# Altium schematic symbol library SCH - MCU - INFINEON - INFINEON S6E2G38H0XXV2 LQFP-144.SchLib: 1 symbol
Pins are listed as number, name and electrical type; pins without a type are passive.

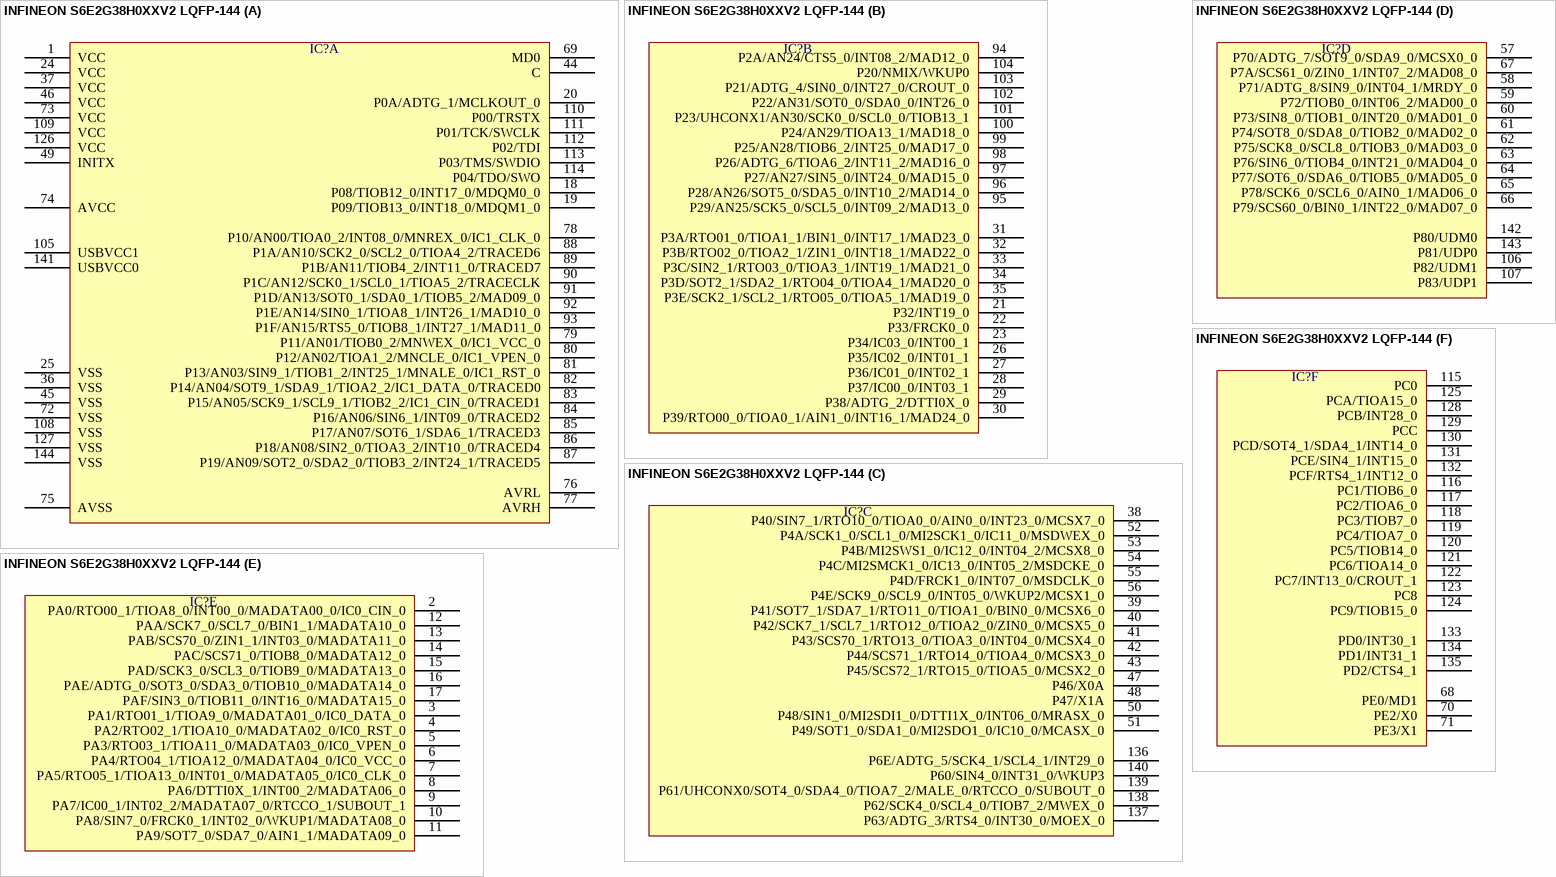
[diagram p0: symbol INFINEON S6E2G38H0XXV2 LQFP-144]

## INFINEON S6E2G38H0XXV2 LQFP-144
designator IC?  (value not drawn)
part A pins: 1 VCC, 18 P08/TIOB12_0/INT17_0/MDQM0_0, 19 P09/TIOB13_0/INT18_0/MDQM1_0, 20 P0A/ADTG_1/MCLKOUT_0, 24 VCC, 25 VSS, 36 VSS, 37 VCC, 44 C, 45 VSS, 46 VCC, 49 INITX, 69 MD0, 72 VSS, 73 VCC, 74 AVCC, 75 AVSS, 76 AVRL, 77 AVRH, 78 P10/AN00/TIOA0_2/INT08_0/MNREX_0/IC1_CLK_0, 79 P11/AN01/TIOB0_2/MNWEX_0/IC1_VCC_0, 80 P12/AN02/TIOA1_2/MNCLE_0/IC1_VPEN_0, 81 P13/AN03/SIN9_1/TIOB1_2/INT25_1/MNALE_0/IC1_RST_0, 82 P14/AN04/SOT9_1/SDA9_1/TIOA2_2/IC1_DATA_0/TRACED0, 83 P15/AN05/SCK9_1/SCL9_1/TIOB2_2/IC1_CIN_0/TRACED1, 84 P16/AN06/SIN6_1/INT09_0/TRACED2, 85 P17/AN07/SOT6_1/SDA6_1/TRACED3, 86 P18/AN08/SIN2_0/TIOA3_2/INT10_0/TRACED4, 87 P19/AN09/SOT2_0/SDA2_0/TIOB3_2/INT24_1/TRACED5, 88 P1A/AN10/SCK2_0/SCL2_0/TIOA4_2/TRACED6, 89 P1B/AN11/TIOB4_2/INT11_0/TRACED7, 90 P1C/AN12/SCK0_1/SCL0_1/TIOA5_2/TRACECLK, 91 P1D/AN13/SOT0_1/SDA0_1/TIOB5_2/MAD09_0, 92 P1E/AN14/SIN0_1/TIOA8_1/INT26_1/MAD10_0, 93 P1F/AN15/RTS5_0/TIOB8_1/INT27_1/MAD11_0, 105 USBVCC1, 108 VSS, 109 VCC, 110 P00/TRSTX, 111 P01/TCK/SWCLK, 112 P02/TDI, 113 P03/TMS/SWDIO, 114 P04/TDO/SWO, 126 VCC, 127 VSS, 141 USBVCC0, 144 VSS
part B pins: 21 P32/INT19_0, 22 P33/FRCK0_0, 23 P34/IC03_0/INT00_1, 26 P35/IC02_0/INT01_1, 27 P36/IC01_0/INT02_1, 28 P37/IC00_0/INT03_1, 29 P38/ADTG_2/DTTI0X_0, 30 P39/RTO00_0/TIOA0_1/AIN1_0/INT16_1/MAD24_0, 31 P3A/RTO01_0/TIOA1_1/BIN1_0/INT17_1/MAD23_0, 32 P3B/RTO02_0/TIOA2_1/ZIN1_0/INT18_1/MAD22_0, 33 P3C/SIN2_1/RTO03_0/TIOA3_1/INT19_1/MAD21_0, 34 P3D/SOT2_1/SDA2_1/RTO04_0/TIOA4_1/MAD20_0, 35 P3E/SCK2_1/SCL2_1/RTO05_0/TIOA5_1/MAD19_0, 94 P2A/AN24/CTS5_0/INT08_2/MAD12_0, 95 P29/AN25/SCK5_0/SCL5_0/INT09_2/MAD13_0, 96 P28/AN26/SOT5_0/SDA5_0/INT10_2/MAD14_0, 97 P27/AN27/SIN5_0/INT24_0/MAD15_0, 98 P26/ADTG_6/TIOA6_2/INT11_2/MAD16_0, 99 P25/AN28/TIOB6_2/INT25_0/MAD17_0, 100 P24/AN29/TIOA13_1/MAD18_0, 101 P23/UHCONX1/AN30/SCK0_0/SCL0_0/TIOB13_1, 102 P22/AN31/SOT0_0/SDA0_0/INT26_0, 103 P21/ADTG_4/SIN0_0/INT27_0/CROUT_0, 104 P20/NMIX/WKUP0
part C pins: 38 P40/SIN7_1/RTO10_0/TIOA0_0/AIN0_0/INT23_0/MCSX7_0, 39 P41/SOT7_1/SDA7_1/RTO11_0/TIOA1_0/BIN0_0/MCSX6_0, 40 P42/SCK7_1/SCL7_1/RTO12_0/TIOA2_0/ZIN0_0/MCSX5_0, 41 P43/SCS70_1/RTO13_0/TIOA3_0/INT04_0/MCSX4_0, 42 P44/SCS71_1/RTO14_0/TIOA4_0/MCSX3_0, 43 P45/SCS72_1/RTO15_0/TIOA5_0/MCSX2_0, 47 P46/X0A, 48 P47/X1A, 50 P48/SIN1_0/MI2SDI1_0/DTTI1X_0/INT06_0/MRASX_0, 51 P49/SOT1_0/SDA1_0/MI2SDO1_0/IC10_0/MCASX_0, 52 P4A/SCK1_0/SCL1_0/MI2SCK1_0/IC11_0/MSDWEX_0, 53 P4B/MI2SWS1_0/IC12_0/INT04_2/MCSX8_0, 54 P4C/MI2SMCK1_0/IC13_0/INT05_2/MSDCKE_0, 55 P4D/FRCK1_0/INT07_0/MSDCLK_0, 56 P4E/SCK9_0/SCL9_0/INT05_0/WKUP2/MCSX1_0, 136 P6E/ADTG_5/SCK4_1/SCL4_1/INT29_0, 137 P63/ADTG_3/RTS4_0/INT30_0/MOEX_0, 138 P62/SCK4_0/SCL4_0/TIOB7_2/MWEX_0, 139 P61/UHCONX0/SOT4_0/SDA4_0/TIOA7_2/MALE_0/RTCCO_0/SUBOUT_0, 140 P60/SIN4_0/INT31_0/WKUP3
part D pins: 57 P70/ADTG_7/SOT9_0/SDA9_0/MCSX0_0, 58 P71/ADTG_8/SIN9_0/INT04_1/MRDY_0, 59 P72/TIOB0_0/INT06_2/MAD00_0, 60 P73/SIN8_0/TIOB1_0/INT20_0/MAD01_0, 61 P74/SOT8_0/SDA8_0/TIOB2_0/MAD02_0, 62 P75/SCK8_0/SCL8_0/TIOB3_0/MAD03_0, 63 P76/SIN6_0/TIOB4_0/INT21_0/MAD04_0, 64 P77/SOT6_0/SDA6_0/TIOB5_0/MAD05_0, 65 P78/SCK6_0/SCL6_0/AIN0_1/MAD06_0, 66 P79/SCS60_0/BIN0_1/INT22_0/MAD07_0, 67 P7A/SCS61_0/ZIN0_1/INT07_2/MAD08_0, 106 P82/UDM1, 107 P83/UDP1, 142 P80/UDM0, 143 P81/UDP0
part E pins: 2 PA0/RTO00_1/TIOA8_0/INT00_0/MADATA00_0/IC0_CIN_0, 3 PA1/RTO01_1/TIOA9_0/MADATA01_0/IC0_DATA_0, 4 PA2/RTO02_1/TIOA10_0/MADATA02_0/IC0_RST_0, 5 PA3/RTO03_1/TIOA11_0/MADATA03_0/IC0_VPEN_0, 6 PA4/RTO04_1/TIOA12_0/MADATA04_0/IC0_VCC_0, 7 PA5/RTO05_1/TIOA13_0/INT01_0/MADATA05_0/IC0_CLK_0, 8 PA6/DTTI0X_1/INT00_2/MADATA06_0, 9 PA7/IC00_1/INT02_2/MADATA07_0/RTCCO_1/SUBOUT_1, 10 PA8/SIN7_0/FRCK0_1/INT02_0/WKUP1/MADATA08_0, 11 PA9/SOT7_0/SDA7_0/AIN1_1/MADATA09_0, 12 PAA/SCK7_0/SCL7_0/BIN1_1/MADATA10_0, 13 PAB/SCS70_0/ZIN1_1/INT03_0/MADATA11_0, 14 PAC/SCS71_0/TIOB8_0/MADATA12_0, 15 PAD/SCK3_0/SCL3_0/TIOB9_0/MADATA13_0, 16 PAE/ADTG_0/SOT3_0/SDA3_0/TIOB10_0/MADATA14_0, 17 PAF/SIN3_0/TIOB11_0/INT16_0/MADATA15_0
part F pins: 68 PE0/MD1, 70 PE2/X0, 71 PE3/X1, 115 PC0, 116 PC1/TIOB6_0, 117 PC2/TIOA6_0, 118 PC3/TIOB7_0, 119 PC4/TIOA7_0, 120 PC5/TIOB14_0, 121 PC6/TIOA14_0, 122 PC7/INT13_0/CROUT_1, 123 PC8, 124 PC9/TIOB15_0, 125 PCA/TIOA15_0, 128 PCB/INT28_0, 129 PCC, 130 PCD/SOT4_1/SDA4_1/INT14_0, 131 PCE/SIN4_1/INT15_0, 132 PCF/RTS4_1/INT12_0, 133 PD0/INT30_1, 134 PD1/INT31_1, 135 PD2/CTS4_1